# EAGLE library part DN7C3CA006 (library EE)
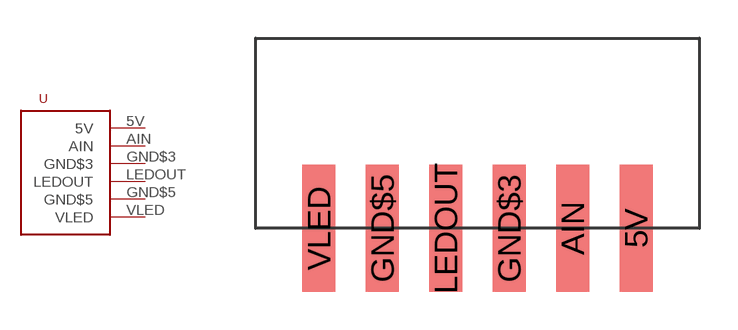
[diagram p11: symbol with the pads of DN7C3CA006; footprint DN7C3CA006]

Designator prefix -

## DN7C3CA006  [DN7C3CA006]
5V  5V
AIN  AIN
GND$3  GND$3
GND$5  GND$5
LEDOUT  LEDOUT
VLED  VLED

## Footprint DN7C3CA006 (pad centres in mm)
smd 1.3 x 5: 5V 12.5,0; AIN 10,0; GND$3 7.5,0; GND$5 2.5,0; LEDOUT 5,0; VLED 0,0